# Altium schematic symbol library jlcpcb_2025_04_ferrites_extended_0402.schlib: 536 symbols (part 5 of 10)
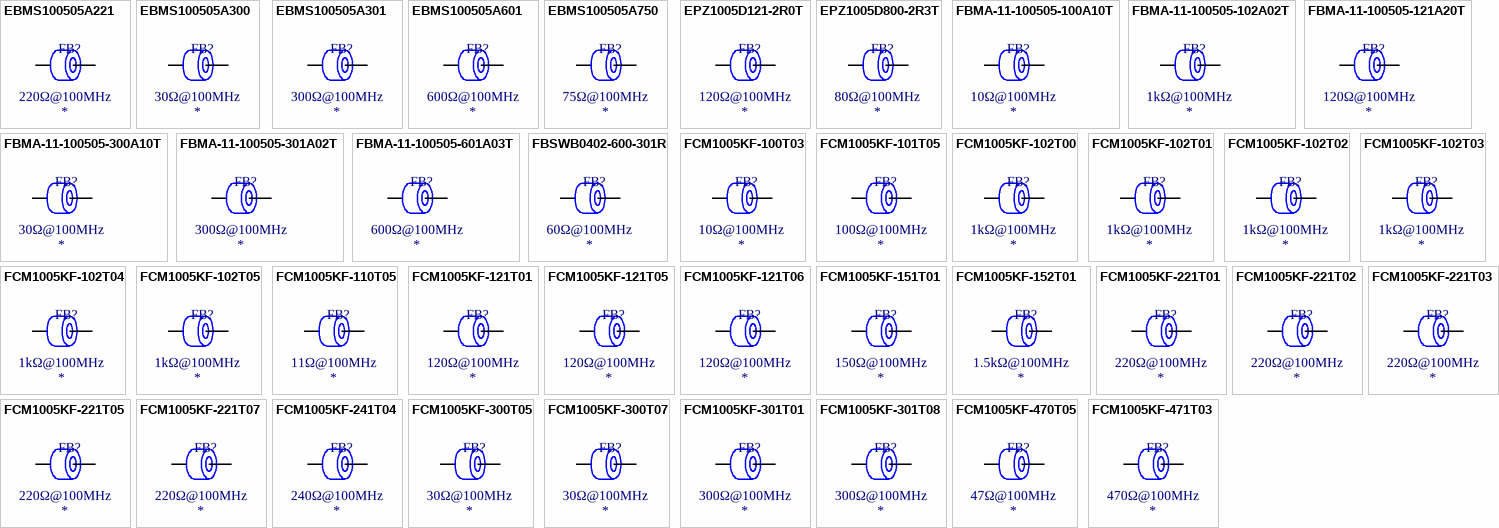
[diagram p17: symbols EBMS100505A221 to FCM1005KF-471T03]

## FCM1005KF-102T03
designator FB?  Impedance @ Frequency: 1kΩ@100MHz
Ferrite, 1kΩ@100MHz, ±25%, 1.2Ω, 300mA, SMD 0402; Manufacturer: TAI-TECH; Manufacturer Part Number: FCM1005KF-102T03; Package Size: 0402; JLCPCB Basic Part: No; JLCPCB Part Number: C369535; Supplier 1: LCSC; Category: Ferrite Beads; Supplier Part Number 1: C369535; Tolerance: ±25%; Rated Current: 300mA; DC Resistance: 1.2Ω; RoHS: Yes; ComponentLink1Description: Datasheet; ComponentLink1URL: https://wmsc.lcsc.com/wmsc/upload/file/pdf/v2/lcsc/2009171441_TAI-TECH-FCM1005KF-102T03_C369535.pdf; ComponentLink2Description: JLCPCB Part URL; ComponentLink2URL: https://jlcpcb.com/partdetail/C369535; ComponentLink3Description: LCSC Part URL; ComponentLink3URL: https://lcsc.com/product-detail/Ferrite-Beads_TAI-TECH-TAI-TECH-FCM1005KF-102T03_C369535.html
footprint FB-0402 (0402 (1005M) Ferrite)
pins: 1, 2

## FCM1005KF-102T04
designator FB?  Impedance @ Frequency: 1kΩ@100MHz
Ferrite, 1kΩ@100MHz, ±25%, 1.1Ω, 400mA, SMD 0402; Manufacturer: TAI-TECH; Manufacturer Part Number: FCM1005KF-102T04; Package Size: 0402; JLCPCB Basic Part: No; JLCPCB Part Number: C304239; Supplier 1: LCSC; Category: Ferrite Beads; Supplier Part Number 1: C304239; Tolerance: ±25%; Rated Current: 400mA; DC Resistance: 1.1Ω; RoHS: Yes; ComponentLink1Description: Datasheet; ComponentLink1URL: https://wmsc.lcsc.com/wmsc/upload/file/pdf/v2/lcsc/2009171409_TAI-TECH-FCM1005KF-102T04_C304239.pdf; ComponentLink2Description: JLCPCB Part URL; ComponentLink2URL: https://jlcpcb.com/partdetail/C304239; ComponentLink3Description: LCSC Part URL; ComponentLink3URL: https://lcsc.com/product-detail/Ferrite-Beads_TAI-TECH-TAI-TECH-FCM1005KF-102T04_C304239.html
footprint FB-0402 (0402 (1005M) Ferrite)
pins: 1, 2

## FCM1005KF-102T05
designator FB?  Impedance @ Frequency: 1kΩ@100MHz
Ferrite, 1kΩ@100MHz, ±25%, 1.2Ω, 500mA, SMD 0402; Manufacturer: TAI-TECH; Manufacturer Part Number: FCM1005KF-102T05; Package Size: 0402; JLCPCB Basic Part: No; JLCPCB Part Number: C2880096; Supplier 1: LCSC; Category: Ferrite Beads; Supplier Part Number 1: C2880096; Tolerance: ±25%; Rated Current: 500mA; DC Resistance: 1.2Ω; RoHS: Yes; ComponentLink1Description: Datasheet; ComponentLink1URL: https://wmsc.lcsc.com/wmsc/upload/file/pdf/v2/lcsc/2108241130_TAI-TECH-FCM1005KF-102T05_C2880096.pdf; ComponentLink2Description: JLCPCB Part URL; ComponentLink2URL: https://jlcpcb.com/partdetail/C2880096; ComponentLink3Description: LCSC Part URL; ComponentLink3URL: https://lcsc.com/product-detail/Ferrite-Beads_TAI-TECH-TAI-TECH-FCM1005KF-102T05_C2880096.html
footprint FB-0402 (0402 (1005M) Ferrite)
pins: 1, 2

## FCM1005KF-110T05
designator FB?  Impedance @ Frequency: 11Ω@100MHz
Ferrite, 11Ω@100MHz, ±25%, 500mA, SMD 0402; Manufacturer: TAI-TECH; Manufacturer Part Number: FCM1005KF-110T05; Package Size: 0402; JLCPCB Basic Part: No; JLCPCB Part Number: C304240; Supplier 1: LCSC; Category: Ferrite Beads; Supplier Part Number 1: C304240; Tolerance: ±25%; Rated Current: 500mA; RoHS: Yes; ComponentLink1Description: Datasheet; ComponentLink1URL: https://wmsc.lcsc.com/wmsc/upload/file/pdf/v2/lcsc/2009171409_TAI-TECH-FCM1005KF-110T05_C304240.pdf; ComponentLink2Description: JLCPCB Part URL; ComponentLink2URL: https://jlcpcb.com/partdetail/C304240; ComponentLink3Description: LCSC Part URL; ComponentLink3URL: https://lcsc.com/product-detail/Ferrite-Beads_TAI-TECH-TAI-TECH-FCM1005KF-110T05_C304240.html
pins: 1, 2

## FCM1005KF-121T01
designator FB?  Impedance @ Frequency: 120Ω@100MHz
Ferrite, 120Ω@100MHz, ±25%, 300mΩ, 100mA, SMD 0402; Manufacturer: TAI-TECH; Manufacturer Part Number: FCM1005KF-121T01; Package Size: 0402; JLCPCB Basic Part: No; JLCPCB Part Number: C155042; Supplier 1: LCSC; Category: Ferrite Beads; Supplier Part Number 1: C155042; Tolerance: ±25%; Rated Current: 100mA; DC Resistance: 300mΩ; RoHS: Yes; ComponentLink1Description: Datasheet; ComponentLink1URL: https://wmsc.lcsc.com/wmsc/upload/file/pdf/v2/lcsc/2009171306_TAI-TECH-FCM1005KF-121T01_C155042.pdf; ComponentLink2Description: JLCPCB Part URL; ComponentLink2URL: https://jlcpcb.com/partdetail/C155042; ComponentLink3Description: LCSC Part URL; ComponentLink3URL: https://lcsc.com/product-detail/Ferrite-Beads_TAI-TECH-TAI-TECH-FCM1005KF-121T01_C155042.html
footprint FB-0402 (0402 (1005M) Ferrite)
pins: 1, 2

## FCM1005KF-121T05
designator FB?  Impedance @ Frequency: 120Ω@100MHz
Ferrite, 120Ω@100MHz, ±25%, 300mΩ, 500mA, SMD 0402; Manufacturer: TAI-TECH; Manufacturer Part Number: FCM1005KF-121T05; Package Size: 0402; JLCPCB Basic Part: No; JLCPCB Part Number: C133927; Supplier 1: LCSC; Category: Ferrite Beads; Supplier Part Number 1: C133927; Tolerance: ±25%; Rated Current: 500mA; DC Resistance: 300mΩ; RoHS: Yes; ComponentLink1Description: Datasheet; ComponentLink1URL: https://wmsc.lcsc.com/wmsc/upload/file/pdf/v2/lcsc/2009171304_TAI-TECH-FCM1005KF-121T05_C133927.pdf; ComponentLink2Description: JLCPCB Part URL; ComponentLink2URL: https://jlcpcb.com/partdetail/C133927; ComponentLink3Description: LCSC Part URL; ComponentLink3URL: https://lcsc.com/product-detail/Ferrite-Beads_TAI-TECH-TAI-TECH-FCM1005KF-121T05_C133927.html
footprint FB-0402 (0402 (1005M) Ferrite)
pins: 1, 2

## FCM1005KF-121T06
designator FB?  Impedance @ Frequency: 120Ω@100MHz
Ferrite, 120Ω@100MHz, ±25%, 300mΩ, 600mA, SMD 0402; Manufacturer: TAI-TECH; Manufacturer Part Number: FCM1005KF-121T06; Package Size: 0402; JLCPCB Basic Part: No; JLCPCB Part Number: C304241; Supplier 1: LCSC; Category: Ferrite Beads; Supplier Part Number 1: C304241; Tolerance: ±25%; Rated Current: 600mA; DC Resistance: 300mΩ; RoHS: Yes; ComponentLink1Description: Datasheet; ComponentLink1URL: https://wmsc.lcsc.com/wmsc/upload/file/pdf/v2/lcsc/2009171409_TAI-TECH-FCM1005KF-121T06_C304241.pdf; ComponentLink2Description: JLCPCB Part URL; ComponentLink2URL: https://jlcpcb.com/partdetail/C304241; ComponentLink3Description: LCSC Part URL; ComponentLink3URL: https://lcsc.com/product-detail/Ferrite-Beads_TAI-TECH-TAI-TECH-FCM1005KF-121T06_C304241.html
footprint FB-0402 (0402 (1005M) Ferrite)
pins: 1, 2

## FCM1005KF-151T01
designator FB?  Impedance @ Frequency: 150Ω@100MHz
Ferrite, 150Ω@100MHz, ±25%, 300mΩ, 100mA, SMD 0402; Manufacturer: TAI-TECH; Manufacturer Part Number: FCM1005KF-151T01; Package Size: 0402; JLCPCB Basic Part: No; JLCPCB Part Number: C155043; Supplier 1: LCSC; Category: Ferrite Beads; Supplier Part Number 1: C155043; Tolerance: ±25%; Rated Current: 100mA; DC Resistance: 300mΩ; RoHS: Yes; ComponentLink1Description: Datasheet; ComponentLink1URL: https://wmsc.lcsc.com/wmsc/upload/file/pdf/v2/lcsc/2009171306_TAI-TECH-FCM1005KF-151T01_C155043.pdf; ComponentLink2Description: JLCPCB Part URL; ComponentLink2URL: https://jlcpcb.com/partdetail/C155043; ComponentLink3Description: LCSC Part URL; ComponentLink3URL: https://lcsc.com/product-detail/Ferrite-Beads_TAI-TECH-TAI-TECH-FCM1005KF-151T01_C155043.html
footprint FB-0402 (0402 (1005M) Ferrite)
pins: 1, 2

## FCM1005KF-152T01
designator FB?  Impedance @ Frequency: 1.5kΩ@100MHz
Ferrite, 1.5kΩ@100MHz, ±25%, 1.3Ω, 100mA, SMD 0402; Manufacturer: TAI-TECH; Manufacturer Part Number: FCM1005KF-152T01; Package Size: 0402; JLCPCB Basic Part: No; JLCPCB Part Number: C2880095; Supplier 1: LCSC; Category: Ferrite Beads; Supplier Part Number 1: C2880095; Tolerance: ±25%; Rated Current: 100mA; DC Resistance: 1.3Ω; RoHS: Yes; ComponentLink1Description: Datasheet; ComponentLink1URL: https://wmsc.lcsc.com/wmsc/upload/file/pdf/v2/lcsc/2108241130_TAI-TECH-FCM1005KF-152T01_C2880095.pdf; ComponentLink2Description: JLCPCB Part URL; ComponentLink2URL: https://jlcpcb.com/partdetail/C2880095; ComponentLink3Description: LCSC Part URL; ComponentLink3URL: https://lcsc.com/product-detail/Ferrite-Beads_TAI-TECH-TAI-TECH-FCM1005KF-152T01_C2880095.html
footprint FB-0402 (0402 (1005M) Ferrite)
pins: 1, 2

## FCM1005KF-221T01
designator FB?  Impedance @ Frequency: 220Ω@100MHz
Ferrite, 220Ω@100MHz, ±25%, 400mΩ, 100mA, SMD 0402; Manufacturer: TAI-TECH; Manufacturer Part Number: FCM1005KF-221T01; Package Size: 0402; JLCPCB Basic Part: No; JLCPCB Part Number: C155044; Supplier 1: LCSC; Category: Ferrite Beads; Supplier Part Number 1: C155044; Tolerance: ±25%; Rated Current: 100mA; DC Resistance: 400mΩ; RoHS: Yes; ComponentLink1Description: Datasheet; ComponentLink1URL: https://wmsc.lcsc.com/wmsc/upload/file/pdf/v2/lcsc/2009171306_TAI-TECH-FCM1005KF-221T01_C155044.pdf; ComponentLink2Description: JLCPCB Part URL; ComponentLink2URL: https://jlcpcb.com/partdetail/C155044; ComponentLink3Description: LCSC Part URL; ComponentLink3URL: https://lcsc.com/product-detail/Ferrite-Beads_TAI-TECH-TAI-TECH-FCM1005KF-221T01_C155044.html
footprint FB-0402 (0402 (1005M) Ferrite)
pins: 1, 2

## FCM1005KF-221T02
designator FB?  Impedance @ Frequency: 220Ω@100MHz
Ferrite, 220Ω@100MHz, ±25%, 400mΩ, 200mA, SMD 0402; Manufacturer: TAI-TECH; Manufacturer Part Number: FCM1005KF-221T02; Package Size: 0402; JLCPCB Basic Part: No; JLCPCB Part Number: C525665; Supplier 1: LCSC; Category: Ferrite Beads; Supplier Part Number 1: C525665; Tolerance: ±25%; Rated Current: 200mA; DC Resistance: 400mΩ; RoHS: Yes; ComponentLink1Description: Datasheet; ComponentLink1URL: https://wmsc.lcsc.com/wmsc/upload/file/pdf/v2/lcsc/2009171442_TAI-TECH-FCM1005KF-221T02_C525665.pdf; ComponentLink2Description: JLCPCB Part URL; ComponentLink2URL: https://jlcpcb.com/partdetail/C525665; ComponentLink3Description: LCSC Part URL; ComponentLink3URL: https://lcsc.com/product-detail/Ferrite-Beads_TAI-TECH-TAI-TECH-FCM1005KF-221T02_C525665.html
footprint FB-0402 (0402 (1005M) Ferrite)
pins: 1, 2

## FCM1005KF-221T03
designator FB?  Impedance @ Frequency: 220Ω@100MHz
Ferrite, 220Ω@100MHz, ±25%, 400mΩ, 300mA, SMD 0402; Manufacturer: TAI-TECH; Manufacturer Part Number: FCM1005KF-221T03; Package Size: 0402; JLCPCB Basic Part: No; JLCPCB Part Number: C525666; Supplier 1: LCSC; Category: Ferrite Beads; Supplier Part Number 1: C525666; Tolerance: ±25%; Rated Current: 300mA; DC Resistance: 400mΩ; RoHS: Yes; ComponentLink1Description: Datasheet; ComponentLink1URL: https://wmsc.lcsc.com/wmsc/upload/file/pdf/v2/lcsc/2009171442_TAI-TECH-FCM1005KF-221T03_C525666.pdf; ComponentLink2Description: JLCPCB Part URL; ComponentLink2URL: https://jlcpcb.com/partdetail/C525666; ComponentLink3Description: LCSC Part URL; ComponentLink3URL: https://lcsc.com/product-detail/Ferrite-Beads_TAI-TECH-TAI-TECH-FCM1005KF-221T03_C525666.html
footprint FB-0402 (0402 (1005M) Ferrite)
pins: 1, 2

## FCM1005KF-221T05
designator FB?  Impedance @ Frequency: 220Ω@100MHz
Ferrite, 220Ω@100MHz, ±25%, 400mΩ, 500mA, SMD 0402; Manufacturer: TAI-TECH; Manufacturer Part Number: FCM1005KF-221T05; Package Size: 0402; JLCPCB Basic Part: No; JLCPCB Part Number: C356934; Supplier 1: LCSC; Category: Ferrite Beads; Supplier Part Number 1: C356934; Tolerance: ±25%; Rated Current: 500mA; DC Resistance: 400mΩ; RoHS: Yes; ComponentLink1Description: Datasheet; ComponentLink1URL: https://wmsc.lcsc.com/wmsc/upload/file/pdf/v2/lcsc/2009171137_TAI-TECH-FCM1005KF-221T05_C356934.pdf; ComponentLink2Description: JLCPCB Part URL; ComponentLink2URL: https://jlcpcb.com/partdetail/C356934; ComponentLink3Description: LCSC Part URL; ComponentLink3URL: https://lcsc.com/product-detail/Ferrite-Beads_TAI-TECH-TAI-TECH-FCM1005KF-221T05_C356934.html
footprint FB-0402 (0402 (1005M) Ferrite)
pins: 1, 2

## FCM1005KF-221T07
designator FB?  Impedance @ Frequency: 220Ω@100MHz
Ferrite, 220Ω@100MHz, ±25%, 400mΩ, 700mA, SMD 0402; Manufacturer: TAI-TECH; Manufacturer Part Number: FCM1005KF-221T07; Package Size: 0402; JLCPCB Basic Part: No; JLCPCB Part Number: C525667; Supplier 1: LCSC; Category: Ferrite Beads; Supplier Part Number 1: C525667; Tolerance: ±25%; Rated Current: 700mA; DC Resistance: 400mΩ; RoHS: Yes; ComponentLink1Description: Datasheet; ComponentLink1URL: https://wmsc.lcsc.com/wmsc/upload/file/pdf/v2/lcsc/2009171442_TAI-TECH-FCM1005KF-221T07_C525667.pdf; ComponentLink2Description: JLCPCB Part URL; ComponentLink2URL: https://jlcpcb.com/partdetail/C525667; ComponentLink3Description: LCSC Part URL; ComponentLink3URL: https://lcsc.com/product-detail/Ferrite-Beads_TAI-TECH-TAI-TECH-FCM1005KF-221T07_C525667.html
footprint FB-0402 (0402 (1005M) Ferrite)
pins: 1, 2

## FCM1005KF-241T04
designator FB?  Impedance @ Frequency: 240Ω@100MHz
Ferrite, 240Ω@100MHz, ±25%, 400mA, SMD 0402; Manufacturer: TAI-TECH; Manufacturer Part Number: FCM1005KF-241T04; Package Size: 0402; JLCPCB Basic Part: No; JLCPCB Part Number: C304243; Supplier 1: LCSC; Category: Ferrite Beads; Supplier Part Number 1: C304243; Tolerance: ±25%; Rated Current: 400mA; RoHS: Yes; ComponentLink1Description: Datasheet; ComponentLink1URL: https://wmsc.lcsc.com/wmsc/upload/file/pdf/v2/lcsc/2009171410_TAI-TECH-FCM1005KF-241T04_C304243.pdf; ComponentLink2Description: JLCPCB Part URL; ComponentLink2URL: https://jlcpcb.com/partdetail/C304243; ComponentLink3Description: LCSC Part URL; ComponentLink3URL: https://lcsc.com/product-detail/Ferrite-Beads_TAI-TECH-TAI-TECH-FCM1005KF-241T04_C304243.html
pins: 1, 2

## FCM1005KF-300T05
designator FB?  Impedance @ Frequency: 30Ω@100MHz
Ferrite, 30Ω@100MHz, ±25%, 200mΩ, 500mA, SMD 0402; Manufacturer: TAI-TECH; Manufacturer Part Number: FCM1005KF-300T05; Package Size: 0402; JLCPCB Basic Part: No; JLCPCB Part Number: C2880092; Supplier 1: LCSC; Category: Ferrite Beads; Supplier Part Number 1: C2880092; Tolerance: ±25%; Rated Current: 500mA; DC Resistance: 200mΩ; RoHS: Yes; ComponentLink1Description: Datasheet; ComponentLink1URL: https://wmsc.lcsc.com/wmsc/upload/file/pdf/v2/lcsc/2108241130_TAI-TECH-FCM1005KF-300T05_C2880092.pdf; ComponentLink2Description: JLCPCB Part URL; ComponentLink2URL: https://jlcpcb.com/partdetail/C2880092; ComponentLink3Description: LCSC Part URL; ComponentLink3URL: https://lcsc.com/product-detail/Ferrite-Beads_TAI-TECH-TAI-TECH-FCM1005KF-300T05_C2880092.html
footprint FB-0402 (0402 (1005M) Ferrite)
pins: 1, 2

## FCM1005KF-300T07
designator FB?  Impedance @ Frequency: 30Ω@100MHz
Ferrite, 30Ω@100MHz, ±25%, 200mΩ, 300mA, SMD 0402; Manufacturer: TAI-TECH; Manufacturer Part Number: FCM1005KF-300T07; Package Size: 0402; JLCPCB Basic Part: No; JLCPCB Part Number: C304244; Supplier 1: LCSC; Category: Ferrite Beads; Supplier Part Number 1: C304244; Tolerance: ±25%; Rated Current: 300mA; DC Resistance: 200mΩ; RoHS: Yes; ComponentLink1Description: Datasheet; ComponentLink1URL: https://wmsc.lcsc.com/wmsc/upload/file/pdf/v2/lcsc/2009171410_TAI-TECH-FCM1005KF-300T07_C304244.pdf; ComponentLink2Description: JLCPCB Part URL; ComponentLink2URL: https://jlcpcb.com/partdetail/C304244; ComponentLink3Description: LCSC Part URL; ComponentLink3URL: https://lcsc.com/product-detail/Ferrite-Beads_TAI-TECH-TAI-TECH-FCM1005KF-300T07_C304244.html
footprint FB-0402 (0402 (1005M) Ferrite)
pins: 1, 2

## FCM1005KF-301T01
designator FB?  Impedance @ Frequency: 300Ω@100MHz
Ferrite, 300Ω@100MHz, ±25%, 500mΩ, 100mA, SMD 0402; Manufacturer: TAI-TECH; Manufacturer Part Number: FCM1005KF-301T01; Package Size: 0402; JLCPCB Basic Part: No; JLCPCB Part Number: C155046; Supplier 1: LCSC; Category: Ferrite Beads; Supplier Part Number 1: C155046; Tolerance: ±25%; Rated Current: 100mA; DC Resistance: 500mΩ; RoHS: Yes; ComponentLink1Description: Datasheet; ComponentLink1URL: https://wmsc.lcsc.com/wmsc/upload/file/pdf/v2/lcsc/2009171306_TAI-TECH-FCM1005KF-301T01_C155046.pdf; ComponentLink2Description: JLCPCB Part URL; ComponentLink2URL: https://jlcpcb.com/partdetail/C155046; ComponentLink3Description: LCSC Part URL; ComponentLink3URL: https://lcsc.com/product-detail/Ferrite-Beads_TAI-TECH-TAI-TECH-FCM1005KF-301T01_C155046.html
footprint FB-0402 (0402 (1005M) Ferrite)
pins: 1, 2

## FCM1005KF-301T08
designator FB?  Impedance @ Frequency: 300Ω@100MHz
Ferrite, 300Ω@100MHz, ±25%, 800mA, SMD 0402; Manufacturer: TAI-TECH; Manufacturer Part Number: FCM1005KF-301T08; Package Size: 0402; JLCPCB Basic Part: No; JLCPCB Part Number: C304245; Supplier 1: LCSC; Category: Ferrite Beads; Supplier Part Number 1: C304245; Tolerance: ±25%; Rated Current: 800mA; RoHS: Yes; ComponentLink1Description: Datasheet; ComponentLink1URL: https://wmsc.lcsc.com/wmsc/upload/file/pdf/v2/lcsc/2009171410_TAI-TECH-FCM1005KF-301T08_C304245.pdf; ComponentLink2Description: JLCPCB Part URL; ComponentLink2URL: https://jlcpcb.com/partdetail/C304245; ComponentLink3Description: LCSC Part URL; ComponentLink3URL: https://lcsc.com/product-detail/Ferrite-Beads_TAI-TECH-TAI-TECH-FCM1005KF-301T08_C304245.html
pins: 1, 2

## FCM1005KF-470T05
designator FB?  Impedance @ Frequency: 47Ω@100MHz
Ferrite, 47Ω@100MHz, ±25%, 250mΩ, 500mA, SMD 0402; Manufacturer: TAI-TECH; Manufacturer Part Number: FCM1005KF-470T05; Package Size: 0402; JLCPCB Basic Part: No; JLCPCB Part Number: C356937; Supplier 1: LCSC; Category: Ferrite Beads; Supplier Part Number 1: C356937; Tolerance: ±25%; Rated Current: 500mA; DC Resistance: 250mΩ; RoHS: Yes; ComponentLink1Description: Datasheet; ComponentLink1URL: https://wmsc.lcsc.com/wmsc/upload/file/pdf/v2/lcsc/2009171137_TAI-TECH-FCM1005KF-470T05_C356937.pdf; ComponentLink2Description: JLCPCB Part URL; ComponentLink2URL: https://jlcpcb.com/partdetail/C356937; ComponentLink3Description: LCSC Part URL; ComponentLink3URL: https://lcsc.com/product-detail/Ferrite-Beads_TAI-TECH-TAI-TECH-FCM1005KF-470T05_C356937.html
footprint FB-0402 (0402 (1005M) Ferrite)
pins: 1, 2

## FCM1005KF-471T03
designator FB?  Impedance @ Frequency: 470Ω@100MHz
Ferrite, 470Ω@100MHz, ±25%, 650mΩ, 300mA, SMD 0402; Manufacturer: TAI-TECH; Manufacturer Part Number: FCM1005KF-471T03; Package Size: 0402; JLCPCB Basic Part: No; JLCPCB Part Number: C133928; Supplier 1: LCSC; Category: Ferrite Beads; Supplier Part Number 1: C133928; Tolerance: ±25%; Rated Current: 300mA; DC Resistance: 650mΩ; RoHS: Yes; ComponentLink1Description: Datasheet; ComponentLink1URL: https://wmsc.lcsc.com/wmsc/upload/file/pdf/v2/lcsc/2009171304_TAI-TECH-FCM1005KF-471T03_C133928.pdf; ComponentLink2Description: JLCPCB Part URL; ComponentLink2URL: https://jlcpcb.com/partdetail/C133928; ComponentLink3Description: LCSC Part URL; ComponentLink3URL: https://lcsc.com/product-detail/Ferrite-Beads_TAI-TECH-TAI-TECH-FCM1005KF-471T03_C133928.html
footprint FB-0402 (0402 (1005M) Ferrite)
pins: 1, 2

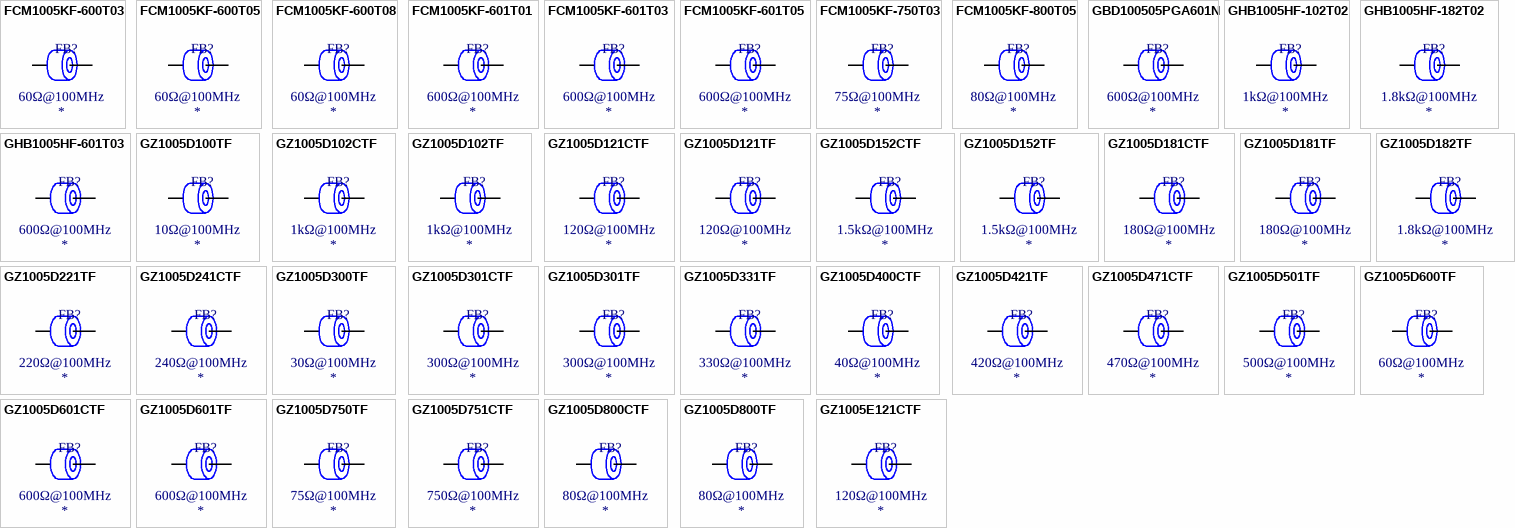
[diagram p6: symbols FCM1005KF-600T03 to GZ1005E121CTF]

## FCM1005KF-600T03
designator FB?  Impedance @ Frequency: 60Ω@100MHz
Ferrite, 60Ω@100MHz, ±25%, 250mΩ, 300mA, SMD 0402; Manufacturer: TAI-TECH; Manufacturer Part Number: FCM1005KF-600T03; Package Size: 0402; JLCPCB Basic Part: No; JLCPCB Part Number: C155048; Supplier 1: LCSC; Category: Ferrite Beads; Supplier Part Number 1: C155048; Tolerance: ±25%; Rated Current: 300mA; DC Resistance: 250mΩ; RoHS: Yes; ComponentLink1Description: Datasheet; ComponentLink1URL: https://wmsc.lcsc.com/wmsc/upload/file/pdf/v2/lcsc/2009171306_TAI-TECH-FCM1005KF-600T03_C155048.pdf; ComponentLink2Description: JLCPCB Part URL; ComponentLink2URL: https://jlcpcb.com/partdetail/C155048; ComponentLink3Description: LCSC Part URL; ComponentLink3URL: https://lcsc.com/product-detail/Ferrite-Beads_TAI-TECH-TAI-TECH-FCM1005KF-600T03_C155048.html
footprint FB-0402 (0402 (1005M) Ferrite)
pins: 1, 2

## FCM1005KF-600T05
designator FB?  Impedance @ Frequency: 60Ω@100MHz
Ferrite, 60Ω@100MHz, ±25%, 250mΩ, 500mA, SMD 0402; Manufacturer: TAI-TECH; Manufacturer Part Number: FCM1005KF-600T05; Package Size: 0402; JLCPCB Basic Part: No; JLCPCB Part Number: C369536; Supplier 1: LCSC; Category: Ferrite Beads; Supplier Part Number 1: C369536; Tolerance: ±25%; Rated Current: 500mA; DC Resistance: 250mΩ; RoHS: Yes; ComponentLink1Description: Datasheet; ComponentLink1URL: https://wmsc.lcsc.com/wmsc/upload/file/pdf/v2/lcsc/2009171441_TAI-TECH-FCM1005KF-600T05_C369536.pdf; ComponentLink2Description: JLCPCB Part URL; ComponentLink2URL: https://jlcpcb.com/partdetail/C369536; ComponentLink3Description: LCSC Part URL; ComponentLink3URL: https://lcsc.com/product-detail/Ferrite-Beads_TAI-TECH-TAI-TECH-FCM1005KF-600T05_C369536.html
footprint FB-0402 (0402 (1005M) Ferrite)
pins: 1, 2

## FCM1005KF-600T08
designator FB?  Impedance @ Frequency: 60Ω@100MHz
Ferrite, 60Ω@100MHz, ±25%, 800mA, SMD 0402; Manufacturer: TAI-TECH; Manufacturer Part Number: FCM1005KF-600T08; Package Size: 0402; JLCPCB Basic Part: No; JLCPCB Part Number: C304246; Supplier 1: LCSC; Category: Ferrite Beads; Supplier Part Number 1: C304246; Tolerance: ±25%; Rated Current: 800mA; RoHS: Yes; ComponentLink1Description: Datasheet; ComponentLink1URL: https://wmsc.lcsc.com/wmsc/upload/file/pdf/v2/lcsc/2009171410_TAI-TECH-FCM1005KF-600T08_C304246.pdf; ComponentLink2Description: JLCPCB Part URL; ComponentLink2URL: https://jlcpcb.com/partdetail/C304246; ComponentLink3Description: LCSC Part URL; ComponentLink3URL: https://lcsc.com/product-detail/Ferrite-Beads_TAI-TECH-TAI-TECH-FCM1005KF-600T08_C304246.html
pins: 1, 2

## FCM1005KF-601T01
designator FB?  Impedance @ Frequency: 600Ω@100MHz
Ferrite, 600Ω@100MHz, ±25%, 800mΩ, 100mA, SMD 0402; Manufacturer: TAI-TECH; Manufacturer Part Number: FCM1005KF-601T01; Package Size: 0402; JLCPCB Basic Part: No; JLCPCB Part Number: C127285; Supplier 1: LCSC; Category: Ferrite Beads; Supplier Part Number 1: C127285; Tolerance: ±25%; Rated Current: 100mA; DC Resistance: 800mΩ; RoHS: Yes; ComponentLink1Description: Datasheet; ComponentLink1URL: https://wmsc.lcsc.com/wmsc/upload/file/pdf/v2/lcsc/2009171134_TAI-TECH-FCM1005KF-601T01_C127285.pdf; ComponentLink2Description: JLCPCB Part URL; ComponentLink2URL: https://jlcpcb.com/partdetail/C127285; ComponentLink3Description: LCSC Part URL; ComponentLink3URL: https://lcsc.com/product-detail/Ferrite-Beads_TAI-TECH-TAI-TECH-FCM1005KF-601T01_C127285.html
footprint FB-0402 (0402 (1005M) Ferrite)
pins: 1, 2

## FCM1005KF-601T03
designator FB?  Impedance @ Frequency: 600Ω@100MHz
Ferrite, 600Ω@100MHz, ±25%, 800mΩ, 300mA, SMD 0402; Manufacturer: TAI-TECH; Manufacturer Part Number: FCM1005KF-601T03; Package Size: 0402; JLCPCB Basic Part: No; JLCPCB Part Number: C427432; Supplier 1: LCSC; Category: Ferrite Beads; Supplier Part Number 1: C427432; Tolerance: ±25%; Rated Current: 300mA; DC Resistance: 800mΩ; RoHS: Yes; ComponentLink1Description: Datasheet; ComponentLink1URL: https://wmsc.lcsc.com/wmsc/upload/file/pdf/v2/lcsc/2009171442_TAI-TECH-FCM1005KF-601T03_C427432.pdf; ComponentLink2Description: JLCPCB Part URL; ComponentLink2URL: https://jlcpcb.com/partdetail/C427432; ComponentLink3Description: LCSC Part URL; ComponentLink3URL: https://lcsc.com/product-detail/Ferrite-Beads_TAI-TECH-TAI-TECH-FCM1005KF-601T03_C427432.html
footprint FB-0402 (0402 (1005M) Ferrite)
pins: 1, 2

## FCM1005KF-601T05
designator FB?  Impedance @ Frequency: 600Ω@100MHz
Ferrite, 600Ω@100MHz, ±25%, 800mΩ, 500mA, SMD 0402; Manufacturer: TAI-TECH; Manufacturer Part Number: FCM1005KF-601T05; Package Size: 0402; JLCPCB Basic Part: No; JLCPCB Part Number: C133929; Supplier 1: LCSC; Category: Ferrite Beads; Supplier Part Number 1: C133929; Tolerance: ±25%; Rated Current: 500mA; DC Resistance: 800mΩ; RoHS: Yes; ComponentLink1Description: Datasheet; ComponentLink1URL: https://wmsc.lcsc.com/wmsc/upload/file/pdf/v2/lcsc/2009171304_TAI-TECH-FCM1005KF-601T05_C133929.pdf; ComponentLink2Description: JLCPCB Part URL; ComponentLink2URL: https://jlcpcb.com/partdetail/C133929; ComponentLink3Description: LCSC Part URL; ComponentLink3URL: https://lcsc.com/product-detail/Ferrite-Beads_TAI-TECH-TAI-TECH-FCM1005KF-601T05_C133929.html
footprint FB-0402 (0402 (1005M) Ferrite)
pins: 1, 2

## FCM1005KF-750T03
designator FB?  Impedance @ Frequency: 75Ω@100MHz
Ferrite, 75Ω@100MHz, ±25%, 250mΩ, 300mA, SMD 0402; Manufacturer: TAI-TECH; Manufacturer Part Number: FCM1005KF-750T03; Package Size: 0402; JLCPCB Basic Part: No; JLCPCB Part Number: C133926; Supplier 1: LCSC; Category: Ferrite Beads; Supplier Part Number 1: C133926; Tolerance: ±25%; Rated Current: 300mA; DC Resistance: 250mΩ; RoHS: Yes; ComponentLink1Description: Datasheet; ComponentLink1URL: https://wmsc.lcsc.com/wmsc/upload/file/pdf/v2/lcsc/2009171304_TAI-TECH-FCM1005KF-750T03_C133926.pdf; ComponentLink2Description: JLCPCB Part URL; ComponentLink2URL: https://jlcpcb.com/partdetail/C133926; ComponentLink3Description: LCSC Part URL; ComponentLink3URL: https://lcsc.com/product-detail/Ferrite-Beads_TAI-TECH-TAI-TECH-FCM1005KF-750T03_C133926.html
footprint FB-0402 (0402 (1005M) Ferrite)
pins: 1, 2

## FCM1005KF-800T05
designator FB?  Impedance @ Frequency: 80Ω@100MHz
Ferrite, 80Ω@100MHz, ±25%, 250mΩ, 500mA, SMD 0402; Manufacturer: TAI-TECH; Manufacturer Part Number: FCM1005KF-800T05; Package Size: 0402; JLCPCB Basic Part: No; JLCPCB Part Number: C369537; Supplier 1: LCSC; Category: Ferrite Beads; Supplier Part Number 1: C369537; Tolerance: ±25%; Rated Current: 500mA; DC Resistance: 250mΩ; RoHS: Yes; ComponentLink1Description: Datasheet; ComponentLink1URL: https://wmsc.lcsc.com/wmsc/upload/file/pdf/v2/lcsc/2009171441_TAI-TECH-FCM1005KF-800T05_C369537.pdf; ComponentLink2Description: JLCPCB Part URL; ComponentLink2URL: https://jlcpcb.com/partdetail/C369537; ComponentLink3Description: LCSC Part URL; ComponentLink3URL: https://lcsc.com/product-detail/Ferrite-Beads_TAI-TECH-TAI-TECH-FCM1005KF-800T05_C369537.html
footprint FB-0402 (0402 (1005M) Ferrite)
pins: 1, 2

## GBD100505PGA601N
designator FB?  Impedance @ Frequency: 600Ω@100MHz
Ferrite, 600Ω@100MHz, ±25%, 1Ω, 200mA, SMD 0402; Manufacturer: Gotrend Tech; Manufacturer Part Number: GBD100505PGA601N; Package Size: 0402; JLCPCB Basic Part: No; JLCPCB Part Number: C226163; Supplier 1: LCSC; Category: Ferrite Beads; Supplier Part Number 1: C226163; Tolerance: ±25%; Rated Current: 200mA; DC Resistance: 1Ω; RoHS: Yes; ComponentLink1Description: Datasheet; ComponentLink1URL: https://wmsc.lcsc.com/wmsc/upload/file/pdf/v2/lcsc/2304140030_Gotrend-Tech-GBD100505PGA601N_C226163.pdf; ComponentLink2Description: JLCPCB Part URL; ComponentLink2URL: https://jlcpcb.com/partdetail/C226163; ComponentLink3Description: LCSC Part URL; ComponentLink3URL: https://lcsc.com/product-detail/Ferrite-Beads_Gotrend-Tech-Gotrend-Tech-GBD100505PGA601N_C226163.html
footprint FB-0402 (0402 (1005M) Ferrite)
pins: 1, 2

## GHB1005HF-102T02
designator FB?  Impedance @ Frequency: 1kΩ@100MHz
Ferrite, 1kΩ@100MHz, ±25%, 1.25Ω, 250mA, SMD 0402; Manufacturer: TAI-TECH; Manufacturer Part Number: GHB1005HF-102T02; Package Size: 0402; JLCPCB Basic Part: No; JLCPCB Part Number: C356949; Supplier 1: LCSC; Category: Ferrite Beads; Supplier Part Number 1: C356949; Tolerance: ±25%; Rated Current: 250mA; DC Resistance: 1.25Ω; RoHS: Yes; ComponentLink1Description: Datasheet; ComponentLink1URL: https://wmsc.lcsc.com/wmsc/upload/file/pdf/v2/lcsc/2009171137_TAI-TECH-GHB1005HF-102T02_C356949.pdf; ComponentLink2Description: JLCPCB Part URL; ComponentLink2URL: https://jlcpcb.com/partdetail/C356949; ComponentLink3Description: LCSC Part URL; ComponentLink3URL: https://lcsc.com/product-detail/Ferrite-Beads_TAI-TECH-TAI-TECH-GHB1005HF-102T02_C356949.html
footprint FB-0402 (0402 (1005M) Ferrite)
pins: 1, 2

## GHB1005HF-182T02
designator FB?  Impedance @ Frequency: 1.8kΩ@100MHz
Ferrite, 1.8kΩ@100MHz, ±25%, 2Ω, 200mA, SMD 0402; Manufacturer: TAI-TECH; Manufacturer Part Number: GHB1005HF-182T02; Package Size: 0402; JLCPCB Basic Part: No; JLCPCB Part Number: C356950; Supplier 1: LCSC; Category: Ferrite Beads; Supplier Part Number 1: C356950; Tolerance: ±25%; Rated Current: 200mA; DC Resistance: 2Ω; RoHS: Yes; ComponentLink1Description: Datasheet; ComponentLink1URL: https://wmsc.lcsc.com/wmsc/upload/file/pdf/v2/lcsc/2009171137_TAI-TECH-GHB1005HF-182T02_C356950.pdf; ComponentLink2Description: JLCPCB Part URL; ComponentLink2URL: https://jlcpcb.com/partdetail/C356950; ComponentLink3Description: LCSC Part URL; ComponentLink3URL: https://lcsc.com/product-detail/Ferrite-Beads_TAI-TECH-TAI-TECH-GHB1005HF-182T02_C356950.html
footprint FB-0402 (0402 (1005M) Ferrite)
pins: 1, 2

## GHB1005HF-601T03
designator FB?  Impedance @ Frequency: 600Ω@100MHz
Ferrite, 600Ω@100MHz, ±25%, 850mΩ, 300mA, SMD 0402; Manufacturer: TAI-TECH; Manufacturer Part Number: GHB1005HF-601T03; Package Size: 0402; JLCPCB Basic Part: No; JLCPCB Part Number: C356951; Supplier 1: LCSC; Category: Ferrite Beads; Supplier Part Number 1: C356951; Tolerance: ±25%; Rated Current: 300mA; DC Resistance: 850mΩ; RoHS: Yes; ComponentLink1Description: Datasheet; ComponentLink1URL: https://wmsc.lcsc.com/wmsc/upload/file/pdf/v2/lcsc/2009171137_TAI-TECH-GHB1005HF-601T03_C356951.pdf; ComponentLink2Description: JLCPCB Part URL; ComponentLink2URL: https://jlcpcb.com/partdetail/C356951; ComponentLink3Description: LCSC Part URL; ComponentLink3URL: https://lcsc.com/product-detail/Ferrite-Beads_TAI-TECH-TAI-TECH-GHB1005HF-601T03_C356951.html
footprint FB-0402 (0402 (1005M) Ferrite)
pins: 1, 2

## GZ1005D100TF
designator FB?  Impedance @ Frequency: 10Ω@100MHz
Ferrite, 10Ω@100MHz, 50mΩ, 500mA, SMD 0402; Manufacturer: Sunlord; Manufacturer Part Number: GZ1005D100TF; Package Size: 0402; JLCPCB Basic Part: No; JLCPCB Part Number: C37654; Supplier 1: LCSC; Category: Ferrite Beads; Supplier Part Number 1: C37654; Rated Current: 500mA; DC Resistance: 50mΩ; RoHS: Yes; ComponentLink1Description: Datasheet; ComponentLink1URL: https://wmsc.lcsc.com/wmsc/upload/file/pdf/v2/lcsc/2310301640_Sunlord-GZ1005D100TF_C37654.pdf; ComponentLink2Description: JLCPCB Part URL; ComponentLink2URL: https://jlcpcb.com/partdetail/C37654; ComponentLink3Description: LCSC Part URL; ComponentLink3URL: https://lcsc.com/product-detail/Ferrite-Beads_Sunlord-Sunlord-GZ1005D100TF_C37654.html
pins: 1, 2

## GZ1005D102CTF
designator FB?  Impedance @ Frequency: 1kΩ@100MHz
Ferrite, 1kΩ@100MHz, ±25%, 700mΩ, 150mA, SMD 0402; Manufacturer: Sunlord; Manufacturer Part Number: GZ1005D102CTF; Package Size: 0402; JLCPCB Basic Part: No; JLCPCB Part Number: C96679; Supplier 1: LCSC; Category: Ferrite Beads; Supplier Part Number 1: C96679; Tolerance: ±25%; Rated Current: 150mA; DC Resistance: 700mΩ; RoHS: Yes; ComponentLink1Description: Datasheet; ComponentLink1URL: https://wmsc.lcsc.com/wmsc/upload/file/pdf/v2/lcsc/2310301640_Sunlord-GZ1005D102CTF_C96679.pdf; ComponentLink2Description: JLCPCB Part URL; ComponentLink2URL: https://jlcpcb.com/partdetail/C96679; ComponentLink3Description: LCSC Part URL; ComponentLink3URL: https://lcsc.com/product-detail/Ferrite-Beads_Sunlord-Sunlord-GZ1005D102CTF_C96679.html
footprint FB-0402 (0402 (1005M) Ferrite)
pins: 1, 2

## GZ1005D102TF
designator FB?  Impedance @ Frequency: 1kΩ@100MHz
Ferrite, 1kΩ@100MHz, ±25%, 1.2Ω, 100mA, SMD 0402; Manufacturer: Sunlord; Manufacturer Part Number: GZ1005D102TF; Package Size: 0402; JLCPCB Basic Part: No; JLCPCB Part Number: C32472; Supplier 1: LCSC; Category: Ferrite Beads; Supplier Part Number 1: C32472; Tolerance: ±25%; Rated Current: 100mA; DC Resistance: 1.2Ω; RoHS: Yes; ComponentLink1Description: Datasheet; ComponentLink1URL: https://wmsc.lcsc.com/wmsc/upload/file/pdf/v2/lcsc/2310301640_Sunlord-GZ1005D102TF_C32472.pdf; ComponentLink2Description: JLCPCB Part URL; ComponentLink2URL: https://jlcpcb.com/partdetail/C32472; ComponentLink3Description: LCSC Part URL; ComponentLink3URL: https://lcsc.com/product-detail/Ferrite-Beads_Sunlord-Sunlord-GZ1005D102TF_C32472.html
footprint FB-0402 (0402 (1005M) Ferrite)
pins: 1, 2

## GZ1005D121CTF
designator FB?  Impedance @ Frequency: 120Ω@100MHz
Ferrite, 120Ω@100MHz, ±25%, 180mΩ, 400mA, SMD 0402; Manufacturer: Sunlord; Manufacturer Part Number: GZ1005D121CTF; Package Size: 0402; JLCPCB Basic Part: No; JLCPCB Part Number: C92620; Supplier 1: LCSC; Category: Ferrite Beads; Supplier Part Number 1: C92620; Tolerance: ±25%; Rated Current: 400mA; DC Resistance: 180mΩ; RoHS: Yes; ComponentLink1Description: Datasheet; ComponentLink1URL: https://wmsc.lcsc.com/wmsc/upload/file/pdf/v2/lcsc/2310301640_Sunlord-GZ1005D121CTF_C92620.pdf; ComponentLink2Description: JLCPCB Part URL; ComponentLink2URL: https://jlcpcb.com/partdetail/C92620; ComponentLink3Description: LCSC Part URL; ComponentLink3URL: https://lcsc.com/product-detail/Ferrite-Beads_Sunlord-Sunlord-GZ1005D121CTF_C92620.html
footprint FB-0402 (0402 (1005M) Ferrite)
pins: 1, 2

## GZ1005D121TF
designator FB?  Impedance @ Frequency: 120Ω@100MHz
Ferrite, 120Ω@100MHz, ±25%, 400mΩ, 200mA, SMD 0402; Manufacturer: Sunlord; Manufacturer Part Number: GZ1005D121TF; Package Size: 0402; JLCPCB Basic Part: No; JLCPCB Part Number: C38480; Supplier 1: LCSC; Category: Ferrite Beads; Supplier Part Number 1: C38480; Tolerance: ±25%; Rated Current: 200mA; DC Resistance: 400mΩ; RoHS: Yes; ComponentLink1Description: Datasheet; ComponentLink1URL: https://wmsc.lcsc.com/wmsc/upload/file/pdf/v2/lcsc/2310301640_Sunlord-GZ1005D121TF_C38480.pdf; ComponentLink2Description: JLCPCB Part URL; ComponentLink2URL: https://jlcpcb.com/partdetail/C38480; ComponentLink3Description: LCSC Part URL; ComponentLink3URL: https://lcsc.com/product-detail/Ferrite-Beads_Sunlord-Sunlord-GZ1005D121TF_C38480.html
footprint FB-0402 (0402 (1005M) Ferrite)
pins: 1, 2

## GZ1005D152CTF
designator FB?  Impedance @ Frequency: 1.5kΩ@100MHz
Ferrite, 1.5kΩ@100MHz, ±25%, 1.15Ω, 100mA, SMD 0402; Manufacturer: Sunlord; Manufacturer Part Number: GZ1005D152CTF; Package Size: 0402; JLCPCB Basic Part: No; JLCPCB Part Number: C96680; Supplier 1: LCSC; Category: Ferrite Beads; Supplier Part Number 1: C96680; Tolerance: ±25%; Rated Current: 100mA; DC Resistance: 1.15Ω; RoHS: Yes; ComponentLink1Description: Datasheet; ComponentLink1URL: https://wmsc.lcsc.com/wmsc/upload/file/pdf/v2/lcsc/2310301640_Sunlord-GZ1005D152CTF_C96680.pdf; ComponentLink2Description: JLCPCB Part URL; ComponentLink2URL: https://jlcpcb.com/partdetail/C96680; ComponentLink3Description: LCSC Part URL; ComponentLink3URL: https://lcsc.com/product-detail/Ferrite-Beads_Sunlord-Sunlord-GZ1005D152CTF_C96680.html
footprint FB-0402 (0402 (1005M) Ferrite)
pins: 1, 2

## GZ1005D152TF
designator FB?  Impedance @ Frequency: 1.5kΩ@100MHz
Ferrite, 1.5kΩ@100MHz, ±25%, 1.6Ω, 100mA, SMD 0402; Manufacturer: Sunlord; Manufacturer Part Number: GZ1005D152TF; Package Size: 0402; JLCPCB Basic Part: No; JLCPCB Part Number: C89920; Supplier 1: LCSC; Category: Ferrite Beads; Supplier Part Number 1: C89920; Tolerance: ±25%; Rated Current: 100mA; DC Resistance: 1.6Ω; RoHS: Yes; ComponentLink1Description: Datasheet; ComponentLink1URL: https://wmsc.lcsc.com/wmsc/upload/file/pdf/v2/lcsc/2310301640_Sunlord-GZ1005D152TF_C89920.pdf; ComponentLink2Description: JLCPCB Part URL; ComponentLink2URL: https://jlcpcb.com/partdetail/C89920; ComponentLink3Description: LCSC Part URL; ComponentLink3URL: https://lcsc.com/product-detail/Ferrite-Beads_Sunlord-Sunlord-GZ1005D152TF_C89920.html
footprint FB-0402 (0402 (1005M) Ferrite)
pins: 1, 2

## GZ1005D181CTF
designator FB?  Impedance @ Frequency: 180Ω@100MHz
Ferrite, 180Ω@100MHz, ±25%, SMD 0402; Manufacturer: Sunlord; Manufacturer Part Number: GZ1005D181CTF; Package Size: 0402; JLCPCB Basic Part: No; JLCPCB Part Number: C919150; Supplier 1: LCSC; Category: Ferrite Beads; Supplier Part Number 1: C919150; Tolerance: ±25%; RoHS: Yes; ComponentLink1Description: Datasheet; ComponentLink1URL: https://wmsc.lcsc.com/wmsc/upload/file/pdf/v2/lcsc/2310301640_Sunlord-GZ1005D181CTF_C919150.pdf; ComponentLink2Description: JLCPCB Part URL; ComponentLink2URL: https://jlcpcb.com/partdetail/C919150; ComponentLink3Description: LCSC Part URL; ComponentLink3URL: https://lcsc.com/product-detail/Ferrite-Beads_Sunlord-Sunlord-GZ1005D181CTF_C919150.html
pins: 1, 2

## GZ1005D181TF
designator FB?  Impedance @ Frequency: 180Ω@100MHz
Ferrite, 180Ω@100MHz, ±25%, SMD 0402; Manufacturer: Sunlord; Manufacturer Part Number: GZ1005D181TF; Package Size: 0402; JLCPCB Basic Part: No; JLCPCB Part Number: C279757; Supplier 1: LCSC; Category: Ferrite Beads; Supplier Part Number 1: C279757; Tolerance: ±25%; RoHS: Yes; ComponentLink1Description: Datasheet; ComponentLink1URL: https://wmsc.lcsc.com/wmsc/upload/file/pdf/v2/lcsc/2310301640_Sunlord-GZ1005D181TF_C279757.pdf; ComponentLink2Description: JLCPCB Part URL; ComponentLink2URL: https://jlcpcb.com/partdetail/C279757; ComponentLink3Description: LCSC Part URL; ComponentLink3URL: https://lcsc.com/product-detail/Ferrite-Beads_Sunlord-Sunlord-GZ1005D181TF_C279757.html
pins: 1, 2

## GZ1005D182TF
designator FB?  Impedance @ Frequency: 1.8kΩ@100MHz
Ferrite, 1.8kΩ@100MHz, ±25%, 2Ω, 50mA, SMD 0402; Manufacturer: Sunlord; Manufacturer Part Number: GZ1005D182TF; Package Size: 0402; JLCPCB Basic Part: No; JLCPCB Part Number: C279974; Supplier 1: LCSC; Category: Ferrite Beads; Supplier Part Number 1: C279974; Tolerance: ±25%; Rated Current: 50mA; DC Resistance: 2Ω; RoHS: Yes; ComponentLink1Description: Datasheet; ComponentLink1URL: https://wmsc.lcsc.com/wmsc/upload/file/pdf/v2/lcsc/2310301640_Sunlord-GZ1005D182TF_C279974.pdf; ComponentLink2Description: JLCPCB Part URL; ComponentLink2URL: https://jlcpcb.com/partdetail/C279974; ComponentLink3Description: LCSC Part URL; ComponentLink3URL: https://lcsc.com/product-detail/Ferrite-Beads_Sunlord-Sunlord-GZ1005D182TF_C279974.html
footprint FB-0402 (0402 (1005M) Ferrite)
pins: 1, 2

## GZ1005D221TF
designator FB?  Impedance @ Frequency: 220Ω@100MHz
Ferrite, 220Ω@100MHz, ±25%, 450mΩ, 150mA, SMD 0402; Manufacturer: Sunlord; Manufacturer Part Number: GZ1005D221TF; Package Size: 0402; JLCPCB Basic Part: No; JLCPCB Part Number: C89919; Supplier 1: LCSC; Category: Ferrite Beads; Supplier Part Number 1: C89919; Tolerance: ±25%; Rated Current: 150mA; DC Resistance: 450mΩ; RoHS: Yes; ComponentLink1Description: Datasheet; ComponentLink1URL: https://wmsc.lcsc.com/wmsc/upload/file/pdf/v2/lcsc/2310301640_Sunlord-GZ1005D221TF_C89919.pdf; ComponentLink2Description: JLCPCB Part URL; ComponentLink2URL: https://jlcpcb.com/partdetail/C89919; ComponentLink3Description: LCSC Part URL; ComponentLink3URL: https://lcsc.com/product-detail/Ferrite-Beads_Sunlord-Sunlord-GZ1005D221TF_C89919.html
footprint FB-0402 (0402 (1005M) Ferrite)
pins: 1, 2

## GZ1005D241CTF
designator FB?  Impedance @ Frequency: 240Ω@100MHz
Ferrite, 240Ω@100MHz, ±25%, 300mΩ, 300mA, SMD 0402; Manufacturer: Sunlord; Manufacturer Part Number: GZ1005D241CTF; Package Size: 0402; JLCPCB Basic Part: No; JLCPCB Part Number: C92626; Supplier 1: LCSC; Category: Ferrite Beads; Supplier Part Number 1: C92626; Tolerance: ±25%; Rated Current: 300mA; DC Resistance: 300mΩ; RoHS: Yes; ComponentLink1Description: Datasheet; ComponentLink1URL: https://wmsc.lcsc.com/wmsc/upload/file/pdf/v2/lcsc/2310301640_Sunlord-GZ1005D241CTF_C92626.pdf; ComponentLink2Description: JLCPCB Part URL; ComponentLink2URL: https://jlcpcb.com/partdetail/C92626; ComponentLink3Description: LCSC Part URL; ComponentLink3URL: https://lcsc.com/product-detail/Ferrite-Beads_Sunlord-Sunlord-GZ1005D241CTF_C92626.html
footprint FB-0402 (0402 (1005M) Ferrite)
pins: 1, 2

## GZ1005D300TF
designator FB?  Impedance @ Frequency: 30Ω@100MHz
Ferrite, 30Ω@100MHz, ±25%, SMD 0402; Manufacturer: Sunlord; Manufacturer Part Number: GZ1005D300TF; Package Size: 0402; JLCPCB Basic Part: No; JLCPCB Part Number: C89918; Supplier 1: LCSC; Category: Ferrite Beads; Supplier Part Number 1: C89918; Tolerance: ±25%; RoHS: Yes; ComponentLink1Description: Datasheet; ComponentLink1URL: https://wmsc.lcsc.com/wmsc/upload/file/pdf/v2/lcsc/2310301640_Sunlord-GZ1005D300TF_C89918.pdf; ComponentLink2Description: JLCPCB Part URL; ComponentLink2URL: https://jlcpcb.com/partdetail/C89918; ComponentLink3Description: LCSC Part URL; ComponentLink3URL: https://lcsc.com/product-detail/Ferrite-Beads_Sunlord-Sunlord-GZ1005D300TF_C89918.html
pins: 1, 2

## GZ1005D301CTF
designator FB?  Impedance @ Frequency: 300Ω@100MHz
Ferrite, 300Ω@100MHz, ±25%, 380mΩ, 250mA, SMD 0402; Manufacturer: Sunlord; Manufacturer Part Number: GZ1005D301CTF; Package Size: 0402; JLCPCB Basic Part: No; JLCPCB Part Number: C92623; Supplier 1: LCSC; Category: Ferrite Beads; Supplier Part Number 1: C92623; Tolerance: ±25%; Rated Current: 250mA; DC Resistance: 380mΩ; RoHS: Yes; ComponentLink1Description: Datasheet; ComponentLink1URL: https://wmsc.lcsc.com/wmsc/upload/file/pdf/v2/lcsc/2310301640_Sunlord-GZ1005D301CTF_C92623.pdf; ComponentLink2Description: JLCPCB Part URL; ComponentLink2URL: https://jlcpcb.com/partdetail/C92623; ComponentLink3Description: LCSC Part URL; ComponentLink3URL: https://lcsc.com/product-detail/Ferrite-Beads_Sunlord-Sunlord-GZ1005D301CTF_C92623.html
footprint FB-0402 (0402 (1005M) Ferrite)
pins: 1, 2

## GZ1005D301TF
designator FB?  Impedance @ Frequency: 300Ω@100MHz
Ferrite, 300Ω@100MHz, ±25%, 500mΩ, 100mA, SMD 0402; Manufacturer: Sunlord; Manufacturer Part Number: GZ1005D301TF; Package Size: 0402; JLCPCB Basic Part: No; JLCPCB Part Number: C96681; Supplier 1: LCSC; Category: Ferrite Beads; Supplier Part Number 1: C96681; Tolerance: ±25%; Rated Current: 100mA; DC Resistance: 500mΩ; RoHS: Yes; ComponentLink1Description: Datasheet; ComponentLink1URL: https://wmsc.lcsc.com/wmsc/upload/file/pdf/v2/lcsc/2310301640_Sunlord-GZ1005D301TF_C96681.pdf; ComponentLink2Description: JLCPCB Part URL; ComponentLink2URL: https://jlcpcb.com/partdetail/C96681; ComponentLink3Description: LCSC Part URL; ComponentLink3URL: https://lcsc.com/product-detail/Ferrite-Beads_Sunlord-Sunlord-GZ1005D301TF_C96681.html
footprint FB-0402 (0402 (1005M) Ferrite)
pins: 1, 2

## GZ1005D331TF
designator FB?  Impedance @ Frequency: 330Ω@100MHz
Ferrite, 330Ω@100MHz, ±25%, SMD 0402; Manufacturer: Sunlord; Manufacturer Part Number: GZ1005D331TF; Package Size: 0402; JLCPCB Basic Part: No; JLCPCB Part Number: C74324; Supplier 1: LCSC; Category: Ferrite Beads; Supplier Part Number 1: C74324; Tolerance: ±25%; RoHS: Yes; ComponentLink1Description: Datasheet; ComponentLink1URL: https://wmsc.lcsc.com/wmsc/upload/file/pdf/v2/lcsc/2310301640_Sunlord-GZ1005D331TF_C74324.pdf; ComponentLink2Description: JLCPCB Part URL; ComponentLink2URL: https://jlcpcb.com/partdetail/C74324; ComponentLink3Description: LCSC Part URL; ComponentLink3URL: https://lcsc.com/product-detail/Ferrite-Beads_Sunlord-Sunlord-GZ1005D331TF_C74324.html
pins: 1, 2

## GZ1005D400CTF
designator FB?  Impedance @ Frequency: 40Ω@100MHz
Ferrite, 40Ω@100MHz, ±25%, 120mΩ, 550mA, SMD 0402; Manufacturer: Sunlord; Manufacturer Part Number: GZ1005D400CTF; Package Size: 0402; JLCPCB Basic Part: No; JLCPCB Part Number: C361549; Supplier 1: LCSC; Category: Ferrite Beads; Supplier Part Number 1: C361549; Tolerance: ±25%; Rated Current: 550mA; DC Resistance: 120mΩ; RoHS: Yes; ComponentLink1Description: Datasheet; ComponentLink1URL: https://wmsc.lcsc.com/wmsc/upload/file/pdf/v2/lcsc/2310301640_Sunlord-GZ1005D400CTF_C361549.pdf; ComponentLink2Description: JLCPCB Part URL; ComponentLink2URL: https://jlcpcb.com/partdetail/C361549; ComponentLink3Description: LCSC Part URL; ComponentLink3URL: https://lcsc.com/product-detail/Ferrite-Beads_Sunlord-Sunlord-GZ1005D400CTF_C361549.html
footprint FB-0402 (0402 (1005M) Ferrite)
pins: 1, 2

## GZ1005D421TF
designator FB?  Impedance @ Frequency: 420Ω@100MHz
Ferrite, 420Ω@100MHz, ±25%, 600mΩ, 100mA, SMD 0402; Manufacturer: Sunlord; Manufacturer Part Number: GZ1005D421TF; Package Size: 0402; JLCPCB Basic Part: No; JLCPCB Part Number: C361512; Supplier 1: LCSC; Category: Ferrite Beads; Supplier Part Number 1: C361512; Tolerance: ±25%; Rated Current: 100mA; DC Resistance: 600mΩ; RoHS: Yes; ComponentLink1Description: Datasheet; ComponentLink1URL: https://wmsc.lcsc.com/wmsc/upload/file/pdf/v2/lcsc/2310301640_Sunlord-GZ1005D421TF_C361512.pdf; ComponentLink2Description: JLCPCB Part URL; ComponentLink2URL: https://jlcpcb.com/partdetail/C361512; ComponentLink3Description: LCSC Part URL; ComponentLink3URL: https://lcsc.com/product-detail/Ferrite-Beads_Sunlord-Sunlord-GZ1005D421TF_C361512.html
footprint FB-0402 (0402 (1005M) Ferrite)
pins: 1, 2

## GZ1005D471CTF
designator FB?  Impedance @ Frequency: 470Ω@100MHz
Ferrite, 470Ω@100MHz, ±25%, 450mΩ, 250mA, SMD 0402; Manufacturer: Sunlord; Manufacturer Part Number: GZ1005D471CTF; Package Size: 0402; JLCPCB Basic Part: No; JLCPCB Part Number: C316428; Supplier 1: LCSC; Category: Ferrite Beads; Supplier Part Number 1: C316428; Tolerance: ±25%; Rated Current: 250mA; DC Resistance: 450mΩ; RoHS: Yes; ComponentLink1Description: Datasheet; ComponentLink1URL: https://wmsc.lcsc.com/wmsc/upload/file/pdf/v2/lcsc/2310301640_Sunlord-GZ1005D471CTF_C316428.pdf; ComponentLink2Description: JLCPCB Part URL; ComponentLink2URL: https://jlcpcb.com/partdetail/C316428; ComponentLink3Description: LCSC Part URL; ComponentLink3URL: https://lcsc.com/product-detail/Ferrite-Beads_Sunlord-Sunlord-GZ1005D471CTF_C316428.html
footprint FB-0402 (0402 (1005M) Ferrite)
pins: 1, 2

## GZ1005D501TF
designator FB?  Impedance @ Frequency: 500Ω@100MHz
Ferrite, 500Ω@100MHz, ±25%, 800mΩ, 100mA, SMD 0402; Manufacturer: Sunlord; Manufacturer Part Number: GZ1005D501TF; Package Size: 0402; JLCPCB Basic Part: No; JLCPCB Part Number: C96683; Supplier 1: LCSC; Category: Ferrite Beads; Supplier Part Number 1: C96683; Tolerance: ±25%; Rated Current: 100mA; DC Resistance: 800mΩ; RoHS: Yes; ComponentLink1Description: Datasheet; ComponentLink1URL: https://wmsc.lcsc.com/wmsc/upload/file/pdf/v2/lcsc/2310301640_Sunlord-GZ1005D501TF_C96683.pdf; ComponentLink2Description: JLCPCB Part URL; ComponentLink2URL: https://jlcpcb.com/partdetail/C96683; ComponentLink3Description: LCSC Part URL; ComponentLink3URL: https://lcsc.com/product-detail/Ferrite-Beads_Sunlord-Sunlord-GZ1005D501TF_C96683.html
footprint FB-0402 (0402 (1005M) Ferrite)
pins: 1, 2

## GZ1005D600TF
designator FB?  Impedance @ Frequency: 60Ω@100MHz
Ferrite, 60Ω@100MHz, ±25%, 300mΩ, 200mA, SMD 0402; Manufacturer: Sunlord; Manufacturer Part Number: GZ1005D600TF; Package Size: 0402; JLCPCB Basic Part: No; JLCPCB Part Number: C23478; Supplier 1: LCSC; Category: Ferrite Beads; Supplier Part Number 1: C23478; Tolerance: ±25%; Rated Current: 200mA; DC Resistance: 300mΩ; RoHS: Yes; ComponentLink1Description: Datasheet; ComponentLink1URL: https://wmsc.lcsc.com/wmsc/upload/file/pdf/v2/lcsc/2310301640_Sunlord-GZ1005D600TF_C23478.pdf; ComponentLink2Description: JLCPCB Part URL; ComponentLink2URL: https://jlcpcb.com/partdetail/C23478; ComponentLink3Description: LCSC Part URL; ComponentLink3URL: https://lcsc.com/product-detail/Ferrite-Beads_Sunlord-Sunlord-GZ1005D600TF_C23478.html
footprint FB-0402 (0402 (1005M) Ferrite)
pins: 1, 2

## GZ1005D601CTF
designator FB?  Impedance @ Frequency: 600Ω@100MHz
Ferrite, 600Ω@100MHz, ±25%, 500mΩ, 250mA, SMD 0402; Manufacturer: Sunlord; Manufacturer Part Number: GZ1005D601CTF; Package Size: 0402; JLCPCB Basic Part: No; JLCPCB Part Number: C92621; Supplier 1: LCSC; Category: Ferrite Beads; Supplier Part Number 1: C92621; Tolerance: ±25%; Rated Current: 250mA; DC Resistance: 500mΩ; RoHS: Yes; ComponentLink1Description: Datasheet; ComponentLink1URL: https://wmsc.lcsc.com/wmsc/upload/file/pdf/v2/lcsc/2310301640_Sunlord-GZ1005D601CTF_C92621.pdf; ComponentLink2Description: JLCPCB Part URL; ComponentLink2URL: https://jlcpcb.com/partdetail/C92621; ComponentLink3Description: LCSC Part URL; ComponentLink3URL: https://lcsc.com/product-detail/Ferrite-Beads_Sunlord-Sunlord-GZ1005D601CTF_C92621.html
footprint FB-0402 (0402 (1005M) Ferrite)
pins: 1, 2

## GZ1005D601TF
designator FB?  Impedance @ Frequency: 600Ω@100MHz
Ferrite, 600Ω@100MHz, ±25%, 900mΩ, 100mA, SMD 0402; Manufacturer: Sunlord; Manufacturer Part Number: GZ1005D601TF; Package Size: 0402; JLCPCB Basic Part: No; JLCPCB Part Number: C14182; Supplier 1: LCSC; Category: Ferrite Beads; Supplier Part Number 1: C14182; Tolerance: ±25%; Rated Current: 100mA; DC Resistance: 900mΩ; RoHS: Yes; ComponentLink1Description: Datasheet; ComponentLink1URL: https://wmsc.lcsc.com/wmsc/upload/file/pdf/v2/lcsc/2310301640_Sunlord-GZ1005D601TF_C14182.pdf; ComponentLink2Description: JLCPCB Part URL; ComponentLink2URL: https://jlcpcb.com/partdetail/C14182; ComponentLink3Description: LCSC Part URL; ComponentLink3URL: https://lcsc.com/product-detail/Ferrite-Beads_Sunlord-Sunlord-GZ1005D601TF_C14182.html
footprint FB-0402 (0402 (1005M) Ferrite)
pins: 1, 2

## GZ1005D750TF
designator FB?  Impedance @ Frequency: 75Ω@100MHz
Ferrite, 75Ω@100MHz, ±25%, SMD 0402; Manufacturer: Sunlord; Manufacturer Part Number: GZ1005D750TF; Package Size: 0402; JLCPCB Basic Part: No; JLCPCB Part Number: C279668; Supplier 1: LCSC; Category: Ferrite Beads; Supplier Part Number 1: C279668; Tolerance: ±25%; RoHS: Yes; ComponentLink1Description: Datasheet; ComponentLink1URL: https://wmsc.lcsc.com/wmsc/upload/file/pdf/v2/lcsc/2310301640_Sunlord-GZ1005D750TF_C279668.pdf; ComponentLink2Description: JLCPCB Part URL; ComponentLink2URL: https://jlcpcb.com/partdetail/C279668; ComponentLink3Description: LCSC Part URL; ComponentLink3URL: https://lcsc.com/product-detail/Ferrite-Beads_Sunlord-Sunlord-GZ1005D750TF_C279668.html
pins: 1, 2

## GZ1005D751CTF
designator FB?  Impedance @ Frequency: 750Ω@100MHz
Ferrite, 750Ω@100MHz, ±25%, 650mΩ, 150mA, SMD 0402; Manufacturer: Sunlord; Manufacturer Part Number: GZ1005D751CTF; Package Size: 0402; JLCPCB Basic Part: No; JLCPCB Part Number: C98269; Supplier 1: LCSC; Category: Ferrite Beads; Supplier Part Number 1: C98269; Tolerance: ±25%; Rated Current: 150mA; DC Resistance: 650mΩ; RoHS: Yes; ComponentLink1Description: Datasheet; ComponentLink1URL: https://wmsc.lcsc.com/wmsc/upload/file/pdf/v2/lcsc/2310301640_Sunlord-GZ1005D751CTF_C98269.pdf; ComponentLink2Description: JLCPCB Part URL; ComponentLink2URL: https://jlcpcb.com/partdetail/C98269; ComponentLink3Description: LCSC Part URL; ComponentLink3URL: https://lcsc.com/product-detail/Ferrite-Beads_Sunlord-Sunlord-GZ1005D751CTF_C98269.html
footprint FB-0402 (0402 (1005M) Ferrite)
pins: 1, 2